# EAGLE library part LMH6601 (library op-amp)
OP-AMP - Single 250 MHz, 2.4V CMOS with Shutdown
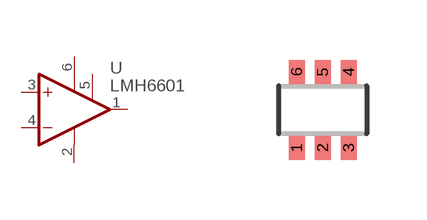
[diagram p62: symbol with the pads of SC70-6; footprint SC70-6]

Designator prefix U

## LMH6601 (DIGIKEY: LMH6601MG/NOPBTR-ND; P1I: o)  [SC70-6]
1  OUT  out
2  V-  pwr
3  +IN  in
4  -IN  in
5  SD  pas
6  V+  pwr

## Footprint SC70-6 (pad centres in mm)
SC70 - DCK 0.65 mm pitch
smd 0.4 x 0.6: 1 -0.65,-0.95; 2 0,-0.95; 3 0.65,-0.95; 4 0.65,0.95; 5 0,0.95; 6 -0.65,0.95